# EAGLE library part SN65HVD230 (library omc)
SN65HVD230 - 3.3V CAN Transceiver - 3.3V operation - ISO 11898 compliant - up to 1Mbps - up to 120 nodes - listen only mode - slope control
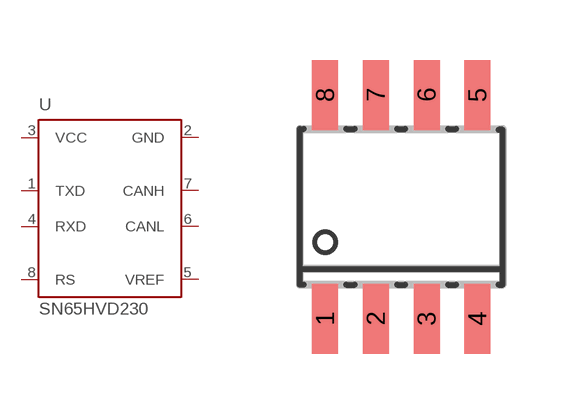
[diagram p8: symbol with the pads of SO8; footprint SO8]

Designator prefix U

## SN65HVD230 (MPN: SN65HVD230DR)  [SO8]
1  TXD  in
2  GND  pwr
3  VCC  pwr
4  RXD  out
5  VREF  out
6  CANL
7  CANH
8  RS  in

## Footprint SO8 (pad centres in mm)
Complient to the IPC7351 standard (SOIC127P600X175-8M)
smd 0.65 x 1.75: 1 -1.905,-2.8; 2 -0.635,-2.8; 3 0.635,-2.8; 4 1.905,-2.8; 5 1.905,2.8; 6 0.635,2.8; 7 -0.635,2.8; 8 -1.905,2.8